# Altium footprint library 2854115.PcbLib: 1 footprints
Each footprint in its own frame and in the unit in brackets; x right, y up, seen from the top. Pads: shape width x height; smd on the part's side, far side on the other; paste and mask are expansions set on the pad; w line width, h text height; cw(c..) or ccw(c..) is an arc to the next point about the centre after c.
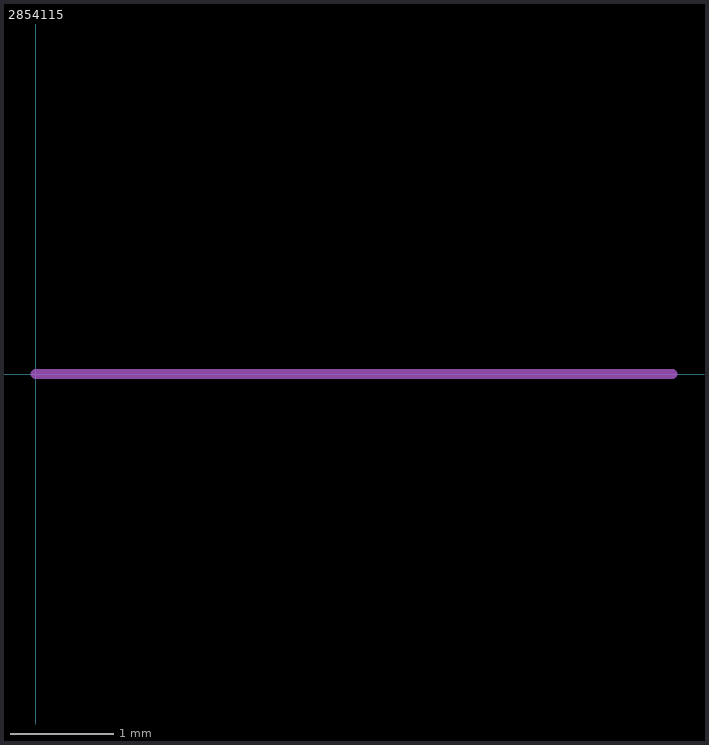
[diagram p0: the footprint, top view; thin cyan lines are the x and y axes]

## 2854115 [mm]
Mechanical 1:
  lines w0.1: 0,0 6.15,0
3D body "pxc_2854115_01_ME-B-17-5-MKDSO-KMGY_3D (2) v1.step": height 11.64, standoff -4.36, extent 0,-17.05 8.55,0